# EAGLE library part EVAL-ADXL355 (library analog)
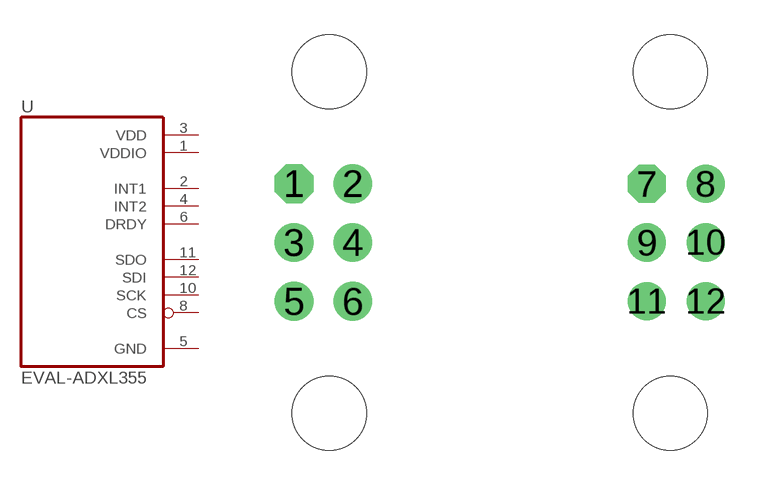
[diagram p1: symbol with the pads of EVAL-ADXL355; footprint EVAL-ADXL355]

Designator prefix -

## EVAL-ADXL355Z  [EVAL-ADXL355]
1  VDDIO  out
2  INT1  out
3  VDD  out
4  INT2  out
5  GND  out
6  DRDY  out
8  CS  out
10  SCK  out
11  SDO  out
12  SDI  out

## Footprint EVAL-ADXL355 (pad centres in mm)
drill 1.1 pad 1.676 octagon: 1 -8.89,2.54
drill 1.1 pad 1.676 round: 2 -6.35,2.54; 3 -8.89,0; 4 -6.35,0; 5 -8.89,-2.54; 6 -6.35,-2.54
drill 1.1 octagon: 7 6.35,2.54
drill 1.1 round: 8 8.89,2.54; 9 6.35,0; 10 8.89,0; 11 6.35,-2.54; 12 8.89,-2.54
hole 3.2 at -7.366,7.366
hole 3.2 at 7.366,7.366
hole 3.2 at 7.366,-7.366
hole 3.2 at -7.366,-7.366